# Altium footprint library CMOD_A7_35.PcbLib: 1 footprints
Each footprint in its own frame and in the unit in brackets; x right, y up, seen from the top. Pads: shape width x height; smd on the part's side, far side on the other; paste and mask are expansions set on the pad; w line width, h text height; cw(c..) or ccw(c..) is an arc to the next point about the centre after c.
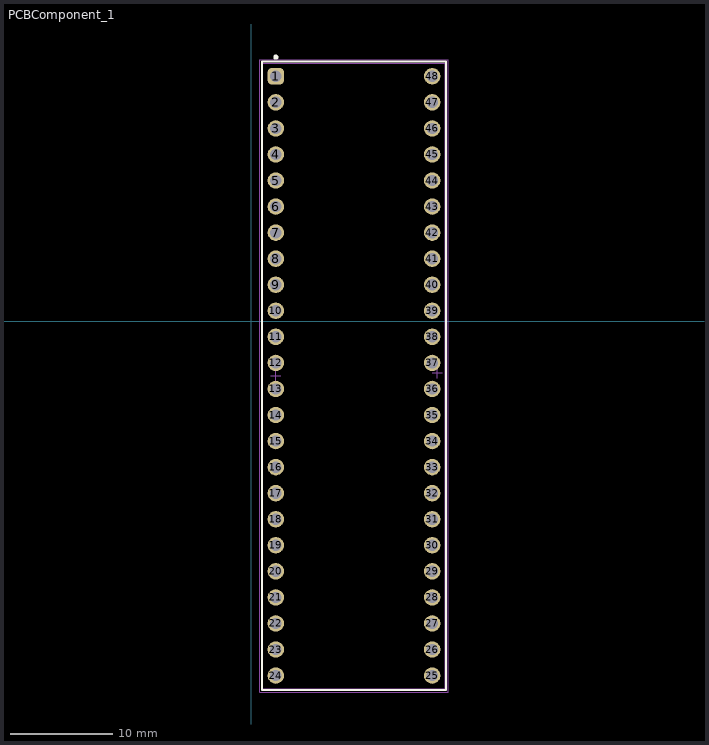
[diagram p0: the footprint, top view; thin cyan lines are the x and y axes]

## PCBComponent_1 [mm]
pads (48):
  rrect50% 1.6x1.6 hole 1.1: 1(2.398,23.864)
  round 1.6 hole 1.1: 2(2.398,21.324) 3(2.398,18.784) 4(2.398,16.244) 5(2.398,13.704) 6(2.398,11.164) 7(2.398,8.624) 8(2.398,6.084) 9(2.398,3.544) 10(2.398,1.004) 11(2.398,-1.536) 12(2.398,-4.076) 13(2.398,-6.616) 14(2.398,-9.156) 15(2.398,-11.696) 16(2.398,-14.236) 17(2.398,-16.776) 18(2.398,-19.316) 19(2.398,-21.856) 20(2.398,-24.396) 21(2.398,-26.936) 22(2.398,-29.476) 23(2.398,-32.016) 24(2.398,-34.556) 25(17.638,-34.556) 26(17.638,-32.016) 27(17.638,-29.476) 28(17.638,-26.936) 29(17.638,-24.396) 30(17.638,-21.856) 31(17.638,-19.316) 32(17.638,-16.776) 33(17.638,-14.236) 34(17.638,-11.696) 35(17.638,-9.156) 36(17.638,-6.616) 37(17.638,-4.076) 38(17.638,-1.536) 39(17.638,1.004) 40(17.638,3.544) 41(17.638,6.084) 42(17.638,8.624) 43(17.638,11.164) 44(17.638,13.704) 45(17.638,16.244) 46(17.638,18.784) 47(17.638,21.324) 48(17.638,23.864)
Top Overlay:
  circle w0.25: c2.398,25.734 r0.125
  lines w0.2: 18.923,-35.976 1.053,-35.976 1.053,25.284 18.923,25.284 ; 18.983,-35.976 18.983,25.284
Top Designator:
  text ".Designator" at 1.898,2.152 h1.5
Top Component Outline:
  lines w0.1: 1.128,-35.826 18.908,-35.826 18.908,25.134 1.128,25.134 1.128,-35.826
Top Courtyard:
  lines w0.05: 0.853,-36.176 19.183,-36.176 19.183,25.484 0.853,25.484 0.853,-36.176
Top Component Center:
  lines w0.05: 1.898,-5.346 2.898,-5.346 ; 2.398,-5.846 2.398,-4.846 ; 17.638,-5.058 18.638,-5.058 ; 18.138,-5.558 18.138,-4.558